# Altium schematic symbol library NCP1200AD100R2.SchLib: 2 symbols
Pins are listed as number, name and electrical type; pins without a type are passive.

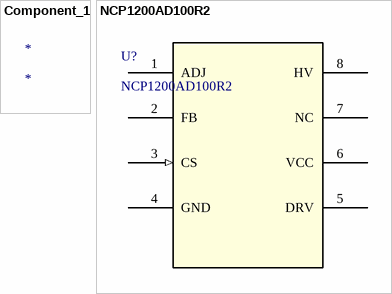
[diagram p0: symbols Component_1 to NCP1200AD100R2]

## Component_1
designator *

## NCP1200AD100R2
designator U?
No Description Available; Manufacturer_Name: onsemi; Copyright: Copyright (C) 2025 Ultra Librarian. All rights reserved.; Manufacturer_Part_Number: NCP1200AD100R2; RefDes: RefDes; Type: Type
footprint SOIC8_ONS
pins: 1 ADJ, 2 FB, 3 CS (in), 4 GND (power), 5 DRV, 6 VCC (power), 7 NC, 8 HV